# Altium schematic symbol library Schlib1.SchLib: 1 symbol
Pins are listed as number, name and electrical type; pins without a type are passive.

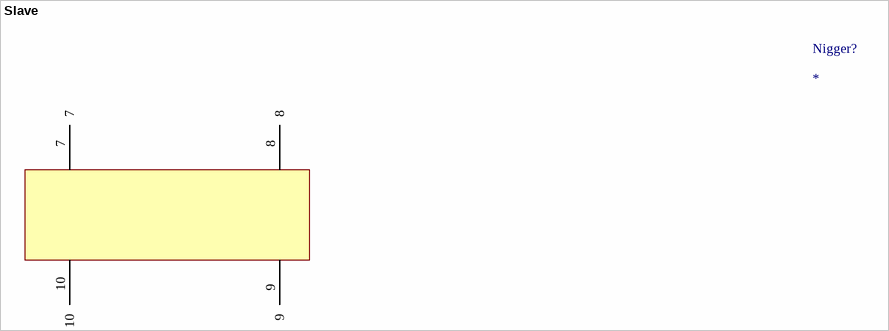
[diagram p0: symbol Slave]

## Slave
designator Nigger?
PN: 334887; URL: http://www.digikey.ca/product-detail/en/LM555CMX%2FNOPB/LM555CMX%2FNOPBTR-ND/334887
pins: 7, 8, 9, 10